# Altium footprint library SFE-Custom-Footprints.PcbLib: 154 footprints (part 8 of 10)
Each footprint in its own frame and in the unit in brackets; x right, y up, seen from the top. Pads: shape width x height; smd on the part's side, far side on the other; paste and mask are expansions set on the pad; w line width, h text height; cw(c..) or ccw(c..) is an arc to the next point about the centre after c.
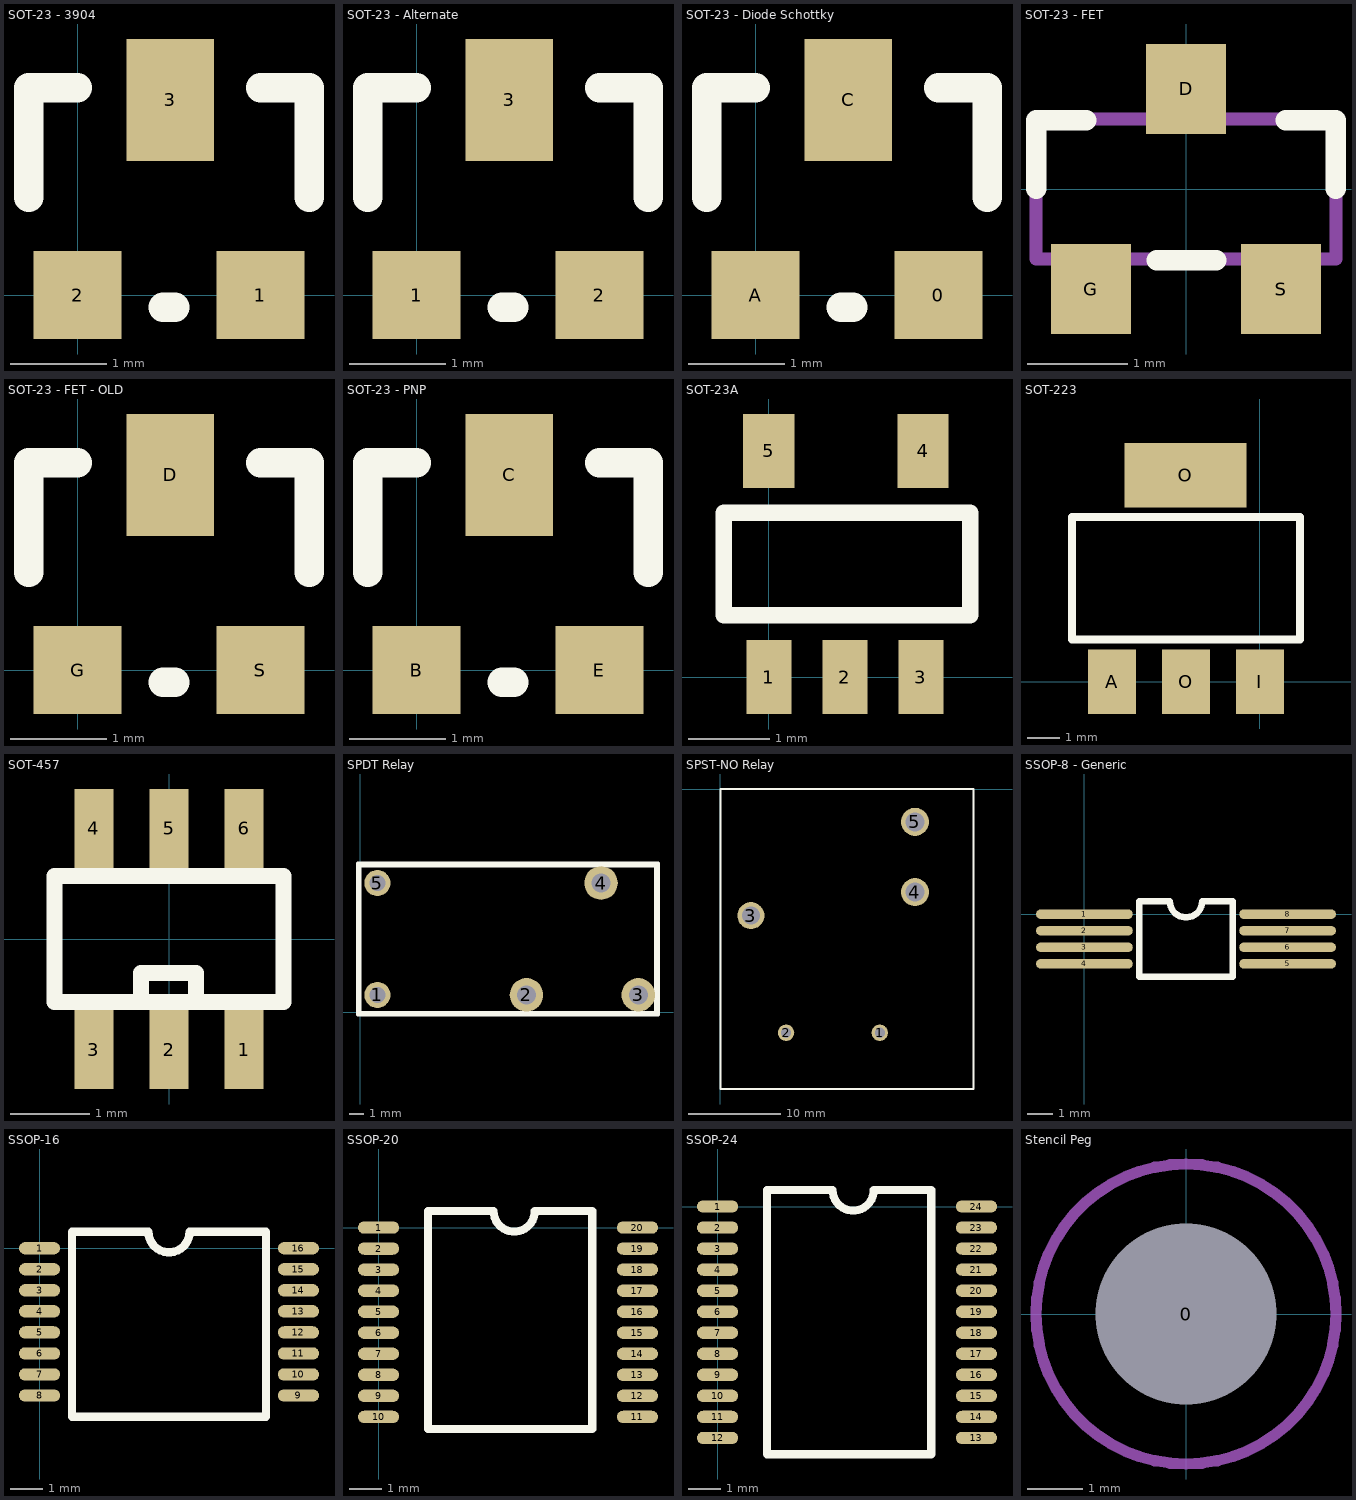
[diagram p7: the footprints below, top view; thin cyan lines are the x and y axes]

## SOT-23 - 3904 [mil]
pads (3):
  rect 36x36 smd: 1(75,0) 2(0,0)
  rect 36x50 smd: 3(38,80)
Top Overlay:
  lines w12: -20,40 -20,85 0,85 ; 35,-5 40,-5 ; 75,85 95,85 95,40

## SOT-23 - Alternate [mil]
pads (3):
  rect 36x36 smd: 1(0,0) 2(75,0)
  rect 36x50 smd: 3(38,80)
Top Overlay:
  lines w12: -20,40 -20,85 0,85 ; 35,-5 40,-5 ; 75,85 95,85 95,40

## SOT-23 - Diode Schottky [mil]
pads (3):
  rect 36x36 smd: 0(75,0) A(0,0)
  rect 36x50 smd: C(38,80)
Top Overlay:
  lines w12: -20,40 -20,85 0,85 ; 35,-5 40,-5 ; 75,85 95,85 95,40

## SOT-23 - FET [mm]
pads (3):
  rect 0.8x0.9 smd: D(0,1) G(-0.95,-1) S(0.95,-1)
Top Overlay:
  lines w0.203: -1.499,0 -1.499,0.687 -0.999,0.687 ; -0.295,-0.711 0.305,-0.711 ; 0.999,0.687 1.499,0.687 1.499,0
Mechanical 1:
  lines w0.127: -1.5,-0.7 1.5,-0.7 1.5,0.7 -1.5,0.7 -1.5,-0.7

## SOT-23 - FET - OLD [mil]
pads (3):
  rect 36x50 smd: D(38,80)
  rect 36x36 smd: G(0,0) S(75,0)
Top Overlay:
  lines w12: -20,40 -20,85 0,85 ; 35,-5 40,-5 ; 75,85 95,85 95,40

## SOT-23 - PNP [mil]
pads (3):
  rect 36x36 smd: B(0,0) E(75,0)
  rect 36x50 smd: C(38,80)
Top Overlay:
  lines w12: -20,40 -20,85 0,85 ; 35,-5 40,-5 ; 75,85 95,85 95,40

## SOT-23A [mil]
pads (5):
  rect 22x36 smd: 1(0,0) 2(37,0) 3(74,0)
  rect 25x36 smd: 4(75,110) 5(0,110)
Top Overlay:
  lines w8: -22,30 -22,80 98,80 98,30 -22,30

## SOT-223 [mil]
pads (4):
  rect 59x79 smd: A(-181.1,0) I(0,0) O(-90.55,0)
  rect 150x79 smd: O(-91.22,253.54)
Top Overlay:
  lines w10: -230.55,52 -230.55,202 49.45,202 49.45,52 -230.55,52

## SOT-457 [mm]
pads (6):
  rect 0.5x1 smd: 1(0.95,-1.4) 2(0,-1.4) 3(-0.95,-1.4) 4(-0.95,1.4) 5(0,1.4) 6(0.95,1.4)
Top Overlay:
  lines w0.203: -0.356,-0.8 -0.356,-0.432 0.344,-0.432 0.344,-0.789 ; -1.45,-0.8 -1.45,0.8 1.45,0.8 1.45,-0.8 -1.45,-0.8

## SPDT Relay [mil]
pads (5):
  round 70 hole 43.31: 1(46,46.85) 5(46,346.85)
  round 90 hole 51.18: 2(446,47) 3(746,47) 4(646,347)
Top Overlay:
  lines w8: 0,393.7 0,0 792.91,0
  lines w10: 0,393.7 792.91,393.7 792.91,0 ; -5.91,-5.91 -5.91,399.61 798.82,399.61 798.82,-5.91 -5.91,-5.91

## SPST-NO Relay [mil]
pads (5):
  round 70 hole 43: 1(680,-1040) 2(280,-1040)
  round 115 hole 78: 3(130,-540)
  round 120 hole 81: 4(830,-440) 5(830,-140)
Top Overlay:
  lines w8: 0,-1280 0,0 1080,0 1080,-1280 0,-1280

## SSOP-8 - Generic [mm]
pads (8):
  oval 3.81x0.381 smd: 1(0,0) 2(0,-0.65) 3(0,-1.3) 4(0,-1.95) 5(8,-1.95) 6(8,-1.3) 7(8,-0.65) 8(8,0)
Top Overlay:
  lines w0.254: 2.158,-2.458 5.842,-2.458 5.842,0.508 4.635,0.508 cw(c4,0.508) 3.365,0.508 2.158,0.508 2.158,-2.458

## SSOP-16 [mm]
pads (16):
  oval 1.27x0.381 smd: 1(0,0) 2(0,-0.65) 3(0,-1.3) 4(0,-1.95) 5(0,-2.6) 6(0,-3.25) 7(0,-3.9) 8(0,-4.55) 9(8,-4.55) 10(8,-3.9) 11(8,-3.25) 12(8,-2.6) 13(8,-1.95) 14(8,-1.3) 15(8,-0.65) 16(8,0)
Top Overlay:
  lines w0.254: 1,-5.207 1,0.508 3.365,0.508 ccw(c4,0.508) 4.635,0.508 7,0.508 7,-5.207 1,-5.207

## SSOP-20 [mm]
pads (20):
  oval 1.27x0.381 smd: 1(0,0) 2(0,-0.65) 3(0,-1.3) 4(0,-1.95) 5(0,-2.6) 6(0,-3.25) 7(0,-3.9) 8(0,-4.55) 9(0,-5.2) 10(0,-5.85) 11(8,-5.85) 12(8,-5.2) 13(8,-4.55) 14(8,-3.9) 15(8,-3.25) 16(8,-2.6) 17(8,-1.95) 18(8,-1.3) 19(8,-0.65) 20(8,0)
Top Overlay:
  lines w0.254: 1.524,-6.223 1.524,0.508 3.556,0.508 ccw(c4.191,0.508) 4.826,0.508 6.604,0.508 6.604,-6.223 1.524,-6.223

## SSOP-24 [mm]
pads (24):
  oval 1.27x0.381 smd: 1(0,0) 2(0,-0.65) 3(0,-1.3) 4(0,-1.95) 5(0,-2.6) 6(0,-3.25) 7(0,-3.9) 8(0,-4.55) 9(0,-5.2) 10(0,-5.85) 11(0,-6.5) 12(0,-7.15) 13(8,-7.15) 14(8,-6.5) 15(8,-5.85) 16(8,-5.2) 17(8,-4.55) 18(8,-3.9) 19(8,-3.25) 20(8,-2.6) 21(8,-1.95) 22(8,-1.3) 23(8,-0.65) 24(8,0)
Top Overlay:
  lines w0.254: 1.524,-7.658 1.524,0.508 3.556,0.508 ccw(c4.191,0.508) 4.826,0.508 6.604,0.508 6.604,-7.658 1.524,-7.658

## Stencil Peg [mil]
pads (2):
  round 130 on Top Paste paste+0: 0(0,0)
  round 0 hole 130 paste+0: 1(0,0)
Mechanical 1:
  circle w8: c0,0 r107.5